# Altium footprint library BZV55C5V6.PcbLib: 1 footprints
Each footprint in its own frame and in the unit in brackets; x right, y up, seen from the top. Pads: shape width x height; smd on the part's side, far side on the other; paste and mask are expansions set on the pad; w line width, h text height; cw(c..) or ccw(c..) is an arc to the next point about the centre after c.
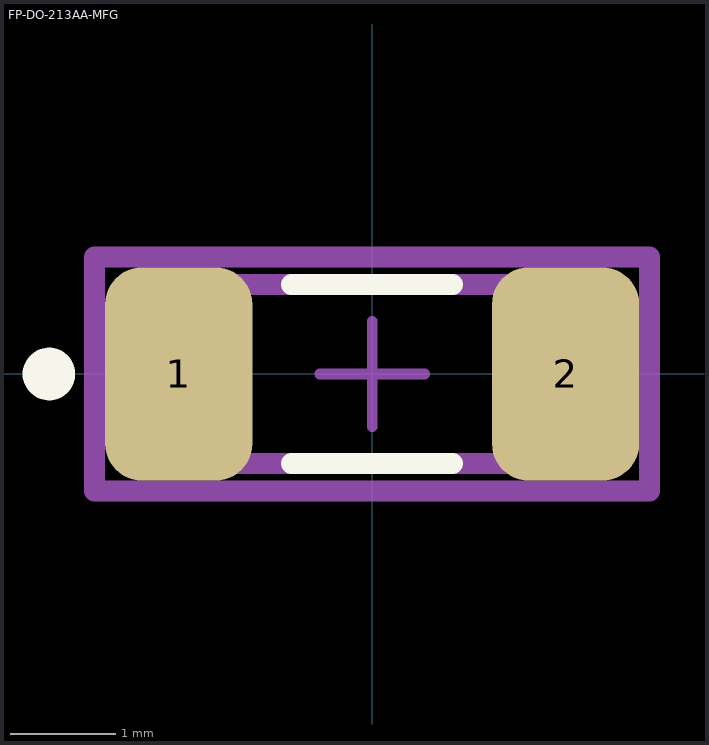
[diagram p0: the footprint, top view; thin cyan lines are the x and y axes]

## FP-DO-213AA-MFG [mm]
pads (2):
  rrect50% 1.4x2.03 smd paste+0 mask+0: 1(-1.84,0) 2(1.84,0)
Top Overlay:
  circle w0.25: c-3.075,0 r0.125
  lines w0.2: -0.765,-0.85 0.765,-0.85 ; -0.765,0.85 0.765,0.85
  text ".Designator" at -2.667,2.032 h1.52
Top Assembly:
  lines w0.2: -2.64,-1.115 -2.64,1.115 2.64,1.115 2.64,-1.115 -2.64,-1.115
  text ".Comment" at -2.711,-2.509 h1
Top 3D Body:
  lines w0.2: -1.855,-0.85 -1.855,0.85 1.855,0.85 1.855,-0.85 -1.855,-0.85
Top Courtyard:
  lines w0.2: -2.64,-1.115 -2.64,1.115 2.64,1.115 2.64,-1.115 -2.64,-1.115
Top Component Center:
  lines w0.1: -0.5,0 0.5,0 ; 0,-0.5 0,0.5
3D body "Diode_Microchip_JANTXV1N970BUR-1_eec.STEP": height 0.25, standoff 0, extent -2.64,-1.115 2.64,1.115